# Altium footprint library Switch_Toggle.PcbLib: 1 footprints
Each footprint in its own frame and in the unit in brackets; x right, y up, seen from the top. Pads: shape width x height; smd on the part's side, far side on the other; paste and mask are expansions set on the pad; w line width, h text height; cw(c..) or ccw(c..) is an arc to the next point about the centre after c.
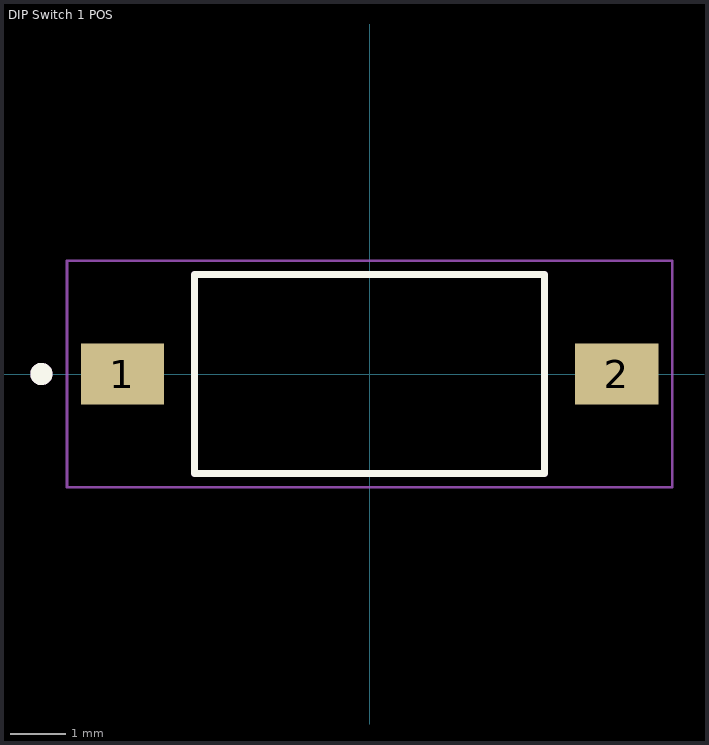
[diagram p0: the footprint, top view; thin cyan lines are the x and y axes]

## DIP Switch 1 POS [mm]
height 3.13
pads (2):
  rect 1.5x1.1 smd: 1(-4.45,0) 2(4.45,0)
Top Overlay:
  circle w0.2: c-5.91,0 r0.1
  lines w0.127: -3.15,-1.79 3.15,-1.79 3.15,1.79 -3.15,1.79 -3.15,-1.79
Mechanical 13:
  circle w0.2: c-5.91,0 r0.1
  lines w0.127: -3.15,-1.79 3.15,-1.79 3.15,1.79 -3.15,1.79 -3.15,-1.79
Mechanical 15:
  lines w0.05: -5.45,-2.04 5.45,-2.04 5.45,2.04 -5.45,2.04 -5.45,-2.04
3D body "step_temp.STEP": height 3.13, standoff 0, extent -4.9,-1.79 4.9,1.79